# EAGLE library part 12_WAY_CON (library Library light system)
PTSA 0,5/12-2,5-Z Source: Datasheet <https://componentsearchengine.com/Datasheets/1/1990106.pdf>
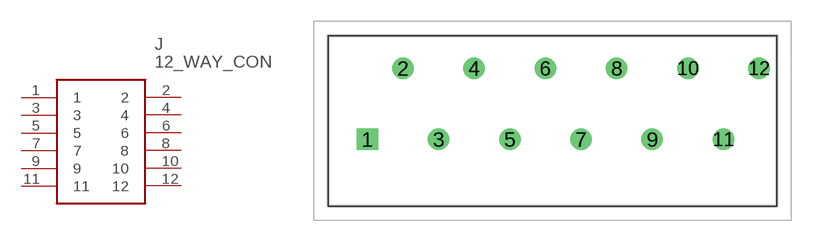
[diagram p1: symbol with the pads of 1990106; footprint 1990106]

Designator prefix J

## 12_WAY_CON (DESCRIPTION: PTSA 0,5/12-2,5-Z; HEIGHT: 13.1mm; MANUFACTURER_NAME: Phoenix Contact; MANUFACTURER_PART_NUMBER: 1990106; MOUSER_PART_NUMBER: 651-1990106; MOUSER_PRICE-STOCK: https://www.mouser.com/Search/Refine.aspx?Keyword=651-1990106)  [1990106]
1  1
2  2
3  3
4  4
5  5
6  6
7  7
8  8
9  9
10  10
11  11
12  12

## Footprint 1990106 (pad centres in mm)
1990106-2
drill 1 pad 1.5 square: 1 0,0
drill 1 pad 1.5: 2 2.5,5; 3 5,0; 4 7.5,5; 5 10,0; 6 12.5,5; 7 15,0; 8 17.5,5; 9 20,0; 10 22.5,5; 11 25,0; 12 27.5,5